# Altium schematic symbol library molex-term-blk.SchLib: 2 symbols
Pins are listed as number, name and electrical type; pins without a type are passive.

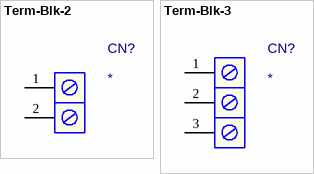
[diagram p0: symbols Term-Blk-2 to Term-Blk-3]

## Term-Blk-2
designator CN?
Terminal Block 2 Positions
footprint BARRIER-6.53-2 (Barrier Terminal Block; 6.35 Pitch; 2 Positions)
footprint BARRIER-7.62-2 (Barrier Terminal Block; 7.62mm Pitch; 2 Positions)
footprint BARRIER-12.7-2 (Barrier Terminal Block; 12.7mm Pitch; 2 Positions)
pins: 1, 2

## Term-Blk-3
designator CN?
Terminal Block 3 Positions
footprint 398800303 (Terminal Block; 5.08mm Pitch; 3 Positions)
pins: 1, 2, 3